# Altium footprint library WREL_AD10_Ben.PcbLib: 135 footprints (part 3 of 9)
Each footprint in its own frame and in the unit in brackets; x right, y up, seen from the top. Pads: shape width x height; smd on the part's side, far side on the other; paste and mask are expansions set on the pad; w line width, h text height; cw(c..) or ccw(c..) is an arc to the next point about the centre after c.
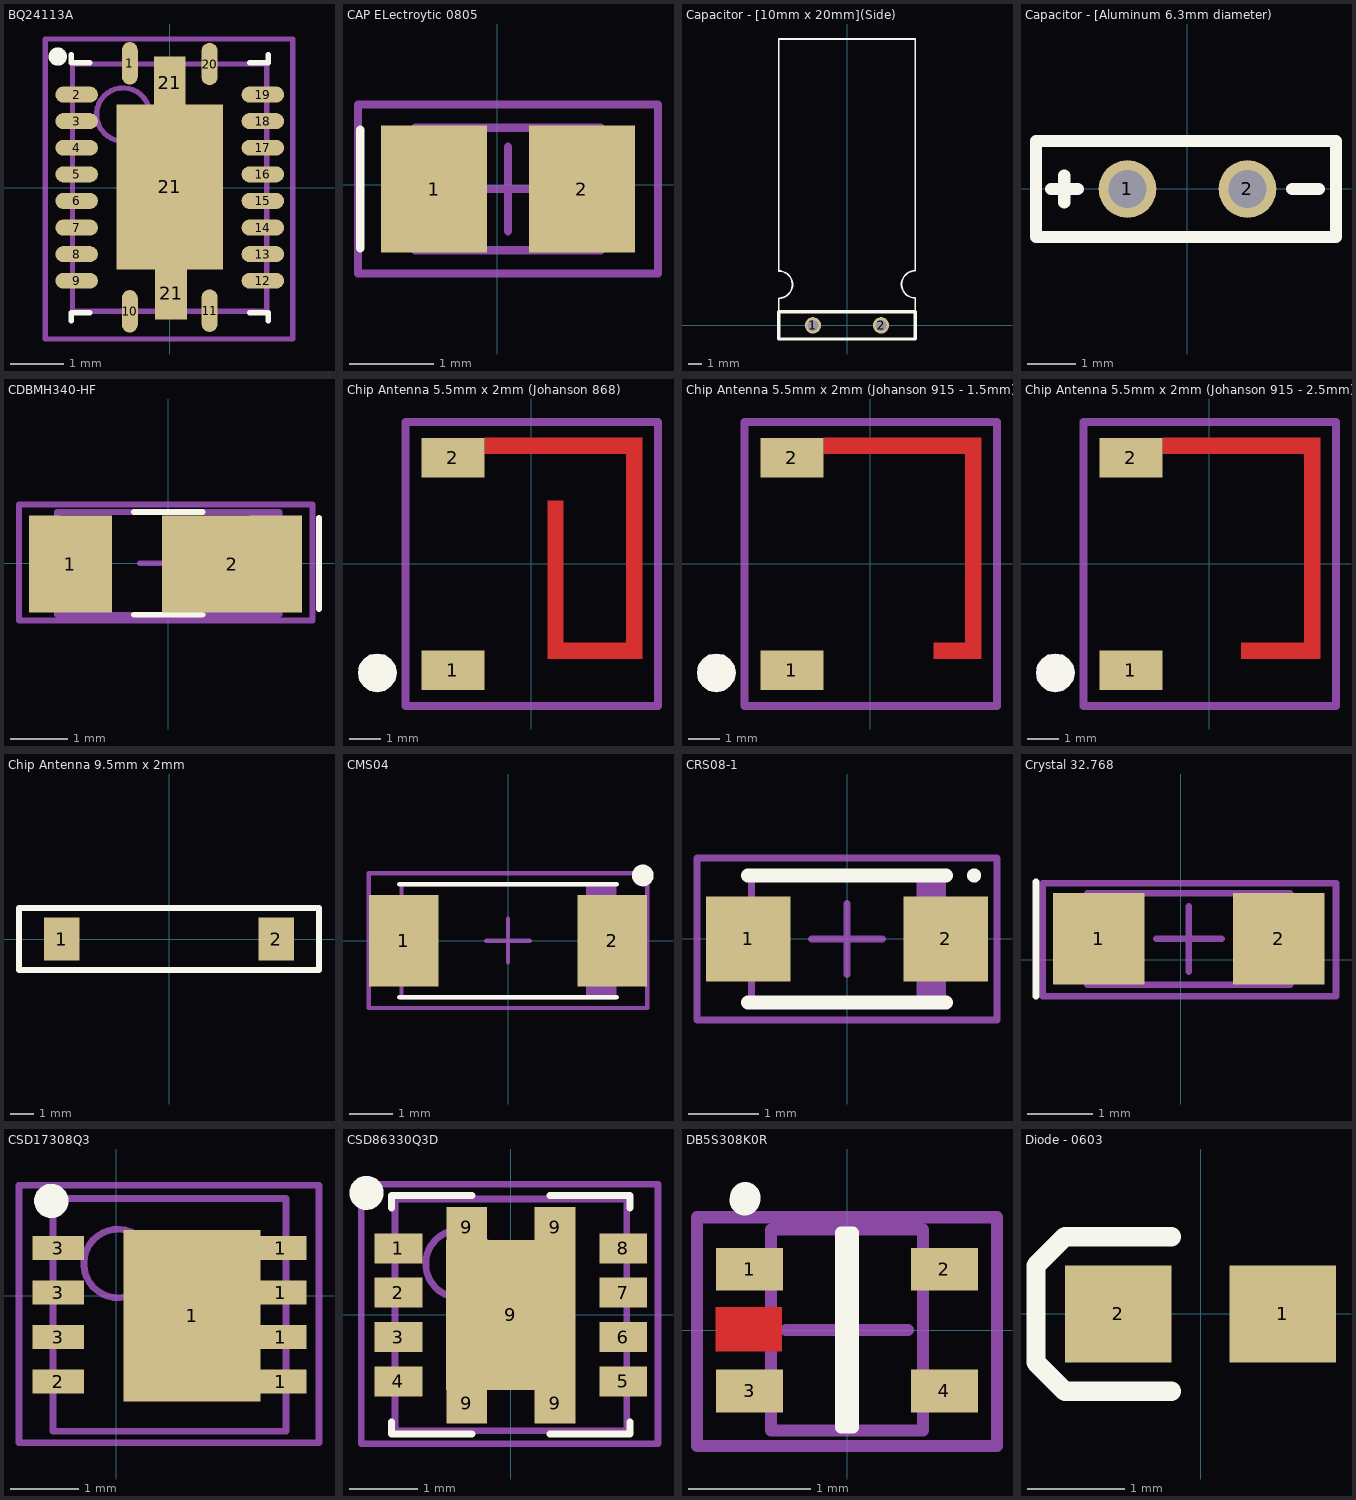
[diagram p2: the footprints below, top view; thin cyan lines are the x and y axes]

## BQ24113A [mm] "BATTERY CHARGER IC"
height 1
pads (23):
  oval 0.3x0.8 smd: 1(-0.749,2.337) 10(-0.75,-2.324) 11(0.749,-2.311) 20(0.749,2.324)
  oval 0.8x0.3 smd: 2(-1.75,1.75) 3(-1.75,1.25) 4(-1.75,0.75) 5(-1.75,0.25) 6(-1.75,-0.25) 7(-1.75,-0.75) 8(-1.75,-1.25) 9(-1.75,-1.75) 12(1.75,-1.75) 13(1.75,-1.25) 14(1.75,-0.75) 15(1.75,-0.25) 16(1.75,0.25) 17(1.75,0.75) 18(1.75,1.25) 19(1.75,1.75)
  rect 2x3.1 smd: 21(0.002,0.013)
  rect 0.6x1 smd: 21(0.002,1.968) 21(0.025,-1.981)
Top Overlay:
  circle w0.25: c-2.104,2.464 r0.047
  lines w0.1: -1.85,-2.5 -1.85,-2.35 -1.5,-2.35 ; -1.85,2.5 -1.85,2.35 -1.5,2.35 ; 1.5,-2.35 1.85,-2.35 1.85,-2.5 ; 1.5,2.35 1.85,2.35 1.85,2.5
Mechanical 13:
  circle w0.1: c-0.875,1.375 r0.5
  lines w0.1: -1.825,-2.325 -1.825,2.325 1.825,2.325 1.825,-2.325 -1.825,-2.325
Mechanical 15:
  lines w0.1: -0.5,0 0.5,0 ; 0,-0.5 0,0.5 ; -2.337,-2.845 -2.337,2.794 2.311,2.794 2.311,-2.845 -2.337,-2.845
3D body: height 1, standoff 0, extent -1.825,-2.325 1.825,2.325

## CAP ELectroytic 0805 [mm]
pads (2):
  rect 1.25x1.5 smd: 1(-0.748,-0.051) 2(1.002,-0.051)
Top Overlay:
  lines w0.1: -1.623,-0.751 -1.623,0.649
Mechanical 13:
  lines w0.1: -0.973,-0.776 1.227,-0.776 1.227,0.674 -0.973,0.674 -0.973,-0.776
Mechanical 15:
  lines w0.1: -0.373,-0.051 0.627,-0.051 ; 0.127,-0.551 0.127,0.449 ; -1.648,-1.051 1.902,-1.051 1.902,0.949 -1.648,0.949 -1.648,-1.051
3D body: height 1.2, standoff 0, extent -0.973,-0.776 1.227,0.674

## Capacitor - [10mm x 20mm](Side) [mm] "Electrolytic Capacitors, Radial Can on side [10mm x 20mm]"
height 10
pads (2):
  round 1.2 hole 0.8: 1(-2.5,0) 2(2.5,0)
Top Overlay:
  lines w0.127: -5,1 -5,1.992 ccw(c-5,2.992) -5,3.992 -5,21 5,21 5,4.008 ccw(c5,3.008) 5,2.008 5,1
  lines w0.254: -5,-1 5,-1 5,1 -5,1 -5,-1
3D body: height 10, standoff 0, extent -5.004,0.906 4.996,20.906

## Capacitor - [Aluminum 6.3mm diameter) [mm] "Electrolytic Capacitors, Radial Can on side"
height 6.3
pads (2):
  round 1.2 hole 0.8: 1(-1.25,0) 2(1.25,0)
Top Overlay:
  lines w0.254: -3.156,-1.002 -3.156,1 ; -3.15,-1 3.094,-1 ; -3.15,1 3.093,1 3.094,-0.996 ; -2.845,0 -2.286,0 ; -2.565,-0.279 -2.565,0.279 ; 2.184,0 2.743,0
3D body: height 6.27, standoff 0.03, extent -3.12,-1.031 3.12,11.669

## CDBMH340-HF [mm] "CDBMH340-HF"
height 1.7
pads (2):
  rect 1.45x1.7 smd: 1(-1.714,-0.013)
  rect 2.45x1.7 smd: 2(1.118,-0.013)
Top Overlay:
  lines w0.1: -0.6,-0.9 0.6,-0.9 ; -0.6,0.9 0.6,0.9 ; 2.642,-0.8 2.642,0.8
Mechanical 13:
  rectangle: 1.425,-0.9 1.95,0.9
  lines w0.1: -1.95,-0.9 -1.95,0.9 1.95,0.9 1.95,-0.9 -1.95,-0.9
Mechanical 15:
  lines w0.1: -0.5,0 0.5,0 ; 0,-0.5 0,0.5 ; -2.616,-1.003 -2.616,1.029 2.527,1.029 2.527,-1.003 -2.616,-1.003
3D body: height 1.7, standoff 0, extent -1.95,-0.9 1.95,0.9

## Chip Antenna 5.5mm x 2mm (Johanson 868) [mm] "For the CC430 (http://www.johansontechnology.com/images/stories/tech-notes/ti/783-868-915-953-2450MHZ_ISM_Solution_Johanson.pdf)"
pads (2):
  rect 2x1.25 smd paste+0 mask+0.1: 1(-2.489,-3.378) 2(-2.489,3.372)
Top Layer:
  region: 0.511,-2.503 0.511,1.997 1.011,1.997 1.011,-2.503
  region: 0.511,-3.003 0.511,-2.503 3.511,-2.503 3.511,-3.003
  region: -1.489,3.497 -1.489,3.997 3.511,3.997 3.511,3.497
  region: 3.011,-2.503 3.011,3.497 3.511,3.497 3.511,-2.503
Top Overlay:
  region: -4.277,-3.453 -4.324,-3.687 -4.457,-3.886 -4.655,-4.018 -4.889,-4.065 -5.123,-4.018 -5.322,-3.886 -5.454,-3.687 -5.501,-3.453 -5.454,-3.219 -5.322,-3.021 -5.123,-2.888 -4.889,-2.841 -4.655,-2.888 -4.457,-3.021 -4.324,-3.219
Mechanical 1:
  region: -4.277,-3.453 -4.324,-3.687 -4.457,-3.886 -4.655,-4.018 -4.889,-4.065 -5.123,-4.018 -5.322,-3.886 -5.454,-3.687 -5.501,-3.453 -5.454,-3.219 -5.322,-3.021 -5.123,-2.888 -4.889,-2.841 -4.655,-2.888 -4.457,-3.021 -4.324,-3.219
  lines w0.254: -3.989,-4.503 4.011,-4.503 4.011,4.497 -3.989,4.497 -3.989,-4.503
Mechanical 2:
  lines w0.025: -3.989,-4.503 4.011,-4.503 4.011,4.497 -3.989,4.497 -3.989,-4.503

## Chip Antenna 5.5mm x 2mm (Johanson 915 - 1.5mm) [mm] "For the CC430 (http://www.johansontechnology.com/images/stories/tech-notes/ti/783-868-915-953-2450MHZ_ISM_Solution_Johanson.pdf)"
pads (2):
  rect 2x1.25 smd paste+0 mask+0.1: 1(-2.489,-3.378) 2(-2.489,3.372)
Top Layer:
  region: 3.011,-2.503 3.011,3.497 3.511,3.497 3.511,-2.503
  region: -1.489,3.497 -1.489,3.997 3.511,3.997 3.511,3.497
  region: 2.011,-3.003 2.011,-2.503 3.511,-2.503 3.511,-3.003
Top Overlay:
  region: -4.277,-3.453 -4.324,-3.687 -4.457,-3.886 -4.655,-4.018 -4.889,-4.065 -5.123,-4.018 -5.322,-3.886 -5.454,-3.687 -5.501,-3.453 -5.454,-3.219 -5.322,-3.021 -5.123,-2.888 -4.889,-2.841 -4.655,-2.888 -4.457,-3.021 -4.324,-3.219
Mechanical 1:
  region: -4.277,-3.453 -4.324,-3.687 -4.457,-3.886 -4.655,-4.018 -4.889,-4.065 -5.123,-4.018 -5.322,-3.886 -5.454,-3.687 -5.501,-3.453 -5.454,-3.219 -5.322,-3.021 -5.123,-2.888 -4.889,-2.841 -4.655,-2.888 -4.457,-3.021 -4.324,-3.219
  lines w0.254: -3.989,-4.503 -3.989,4.497 4.011,4.497 4.011,-4.503 -3.989,-4.503
Mechanical 2:
  lines w0.025: -3.989,-4.503 -3.989,4.497 4.011,4.497 4.011,-4.503 -3.989,-4.503

## Chip Antenna 5.5mm x 2mm (Johanson 915 - 2.5mm) [mm] "For the CC430 (http://www.johansontechnology.com/images/stories/tech-notes/ti/783-868-915-953-2450MHZ_ISM_Solution_Johanson.pdf)"
pads (2):
  rect 2x1.25 smd paste+0 mask+0.1: 1(-2.489,-3.378) 2(-2.489,3.372)
Top Layer:
  region: 3.011,-2.503 3.011,3.497 3.511,3.497 3.511,-2.503
  region: -1.489,3.497 -1.489,3.997 3.511,3.997 3.511,3.497
  region: 1.011,-3.003 1.011,-2.503 3.511,-2.503 3.511,-3.003
Top Overlay:
  region: -4.277,-3.453 -4.324,-3.687 -4.457,-3.886 -4.655,-4.018 -4.889,-4.065 -5.123,-4.018 -5.322,-3.886 -5.454,-3.687 -5.501,-3.453 -5.454,-3.219 -5.322,-3.021 -5.123,-2.888 -4.889,-2.841 -4.655,-2.888 -4.457,-3.021 -4.324,-3.219
Mechanical 1:
  region: -4.277,-3.453 -4.324,-3.687 -4.457,-3.886 -4.655,-4.018 -4.889,-4.065 -5.123,-4.018 -5.322,-3.886 -5.454,-3.687 -5.501,-3.453 -5.454,-3.219 -5.322,-3.021 -5.123,-2.888 -4.889,-2.841 -4.655,-2.888 -4.457,-3.021 -4.324,-3.219
  lines w0.254: -3.989,-4.503 -3.989,4.497 4.011,4.497 4.011,-4.503 -3.989,-4.503
Mechanical 2:
  lines w0.025: -3.989,-4.503 -3.989,4.497 4.011,4.497 4.011,-4.503 -3.989,-4.503

## Chip Antenna 9.5mm x 2mm [mm]
height 1.2
pads (2):
  rect 1.5x1.8 smd: 1(-4.5,0) 2(4.5,0)
Top Overlay:
  lines w0.254: -6.3,-1.3 -6.3,1.3 6.3,1.3 6.3,-1.3 -6.3,-1.3
3D body: height 1.2, standoff 0, extent -6.3,-1.3 6.3,1.3

## CMS04 [mm] "DIODE SCHOTTKY 30V 5A MFLAT"
height 1.08
pads (2):
  rect 1.6x2.1 smd: 1(-2.4,0) 2(2.4,0)
Top Overlay:
  circle w0.25: c3.1,1.5 r0.125
  lines w0.1: -2.5,-1.3 2.5,-1.3 ; -2.5,1.3 2.5,1.3
Mechanical 13:
  rectangle: 1.791,-1.3 2.45,1.3
  lines w0.1: -2.45,-1.3 2.45,-1.3 2.45,1.3 -2.45,1.3 -2.45,-1.3
Mechanical 15:
  lines w0.1: -0.5,0 0.5,0 ; 0,-0.5 0,0.5 ; -3.2,-1.55 3.2,-1.55 3.2,1.55 -3.2,1.55 -3.2,-1.55
3D body: height 1.08, standoff 0, extent -2.45,-1.3 2.45,1.3

## CRS08-1 [mm] "TOSHIBA Schottky Barrier Rectifier"
height 1.08
pads (2):
  rect 1.2x1.2 smd: 1(-1.4,0) 2(1.4,0)
Top Overlay:
  circle w0.1: c1.8,0.9 r0.05
  lines w0.2: -1.4,-0.9 1.4,-0.9 ; -1.4,0.9 1.4,0.9
Mechanical 13:
  rectangle: 0.987,-0.9 1.35,0.9
  lines w0.1: -1.35,-0.9 -1.35,0.9 1.35,0.9 1.35,-0.9 -1.35,-0.9
Mechanical 15:
  lines w0.1: -0.5,0 0.5,0 ; 0,-0.5 0,0.5 ; -2.125,-1.15 -2.125,1.15 2.125,1.15 2.125,-1.15 -2.125,-1.15
3D body: height 1.08, standoff 0, extent -1.35,-0.9 1.35,0.9

## Crystal 32.768 [mm] "CRYSTAL 32.768KHZ 12.5PF SMD"
pads (2):
  rect 1.4x1.4 smd: 1(-1.248,0.318) 2(1.502,0.318)
Top Overlay:
  lines w0.1: -2.21,-0.559 -2.21,1.191
Mechanical 13:
  rectangle: -1.423,-0.383 -1.006,1.017
  lines w0.1: -1.423,-0.383 -1.423,1.017 1.677,1.017 1.677,-0.383 -1.423,-0.383
Mechanical 15:
  lines w0.1: -0.373,0.318 0.627,0.318 ; 0.127,-0.183 0.127,0.817 ; -2.108,-0.559 -2.108,1.168 2.375,1.168 2.375,-0.559 -2.108,-0.559
3D body: height 0.9, standoff 0, extent -1.423,-0.383 1.677,1.017

## CSD17308Q3 [mm] "MOSFET N-CH 30V 47A 8SON"
pads (9):
  rect 2x2.5 smd: 1(1.105,-0.292)
  rect 0.75x0.35 smd: 1(2.4,-1.254) 1(2.4,-0.604) 1(2.4,0.046) 1(2.4,0.696) 2(-0.85,-1.254) 3(-0.85,-0.604) 3(-0.85,0.046) 3(-0.85,0.696)
Top Overlay:
  circle w0.25: c-0.951,1.384 r0.125
Mechanical 13:
  circle w0.1: c0.025,0.471 r0.5
  lines w0.1: -0.925,-1.979 2.475,-1.979 2.475,1.421 -0.925,1.421 -0.925,-1.979
Mechanical 15:
  lines w0.1: 0.275,-0.279 1.275,-0.279 ; 0.775,-0.779 0.775,0.221 ; -1.422,-2.146 2.959,-2.146 2.959,1.613 -1.422,1.613 -1.422,-2.146
3D body: height 1.1, standoff 0.05, extent -0.925,-1.979 2.475,1.421

## CSD86330Q3D [mm] "MOSFET 2N-CH 25V 20A 8SON"
height 1.5
pads (13):
  rect 0.7x0.44 smd: 1(-1.65,0.975) 2(-1.65,0.325) 3(-1.65,-0.325) 4(-1.65,-0.975) 5(1.65,-0.975) 6(1.65,-0.325) 7(1.65,0.325) 8(1.65,0.975)
  rect 0.6x0.6 smd: 9(-0.648,-1.295) 9(-0.648,1.283) 9(0.648,-1.295) 9(0.648,1.283)
  rect 1.9x2.2 smd: 9(0,0)
Top Overlay:
  lines w0.1: -1.75,-1.57 -1.75,-1.75 -0.57,-1.75 ; -1.75,1.57 -1.75,1.75 -0.57,1.75 ; 0.57,-1.75 1.75,-1.75 1.75,-1.57 ; 0.57,1.75 1.75,1.75 1.75,1.57
  lines w0.25: -1.996,1.816 ccw(c-2.119,1.791) -1.994,1.791
Mechanical 13:
  circle w0.1: c-0.75,0.75 r0.5
  lines w0.1: -1.7,-1.7 1.7,-1.7 1.7,1.7 -1.7,1.7 -1.7,-1.7
Mechanical 15:
  lines w0.1: -0.5,0 0.5,0 ; 0,-0.5 0,0.5 ; -2.197,-1.892 2.159,-1.892 2.159,1.918 -2.197,1.918 -2.197,-1.892
3D body: height 1.5, standoff 0.05, extent -1.7,-1.7 1.7,1.7

## DB5S308K0R [mm] "DIODE SCHOTTKY 30V 100MA SSMINI5"
height 0.6
pads (4):
  rect 0.55x0.35 smd: 1(-0.8,0.5) 2(0.8,0.5) 3(-0.8,-0.5) 4(0.8,-0.5)
Top Layer:
  rectangle: -1.079,-0.178 -0.533,0.191
Top Overlay:
  lines w0.1: -0.05,-0.8 -0.05,0.8 0.05,0.8 0.05,-0.8 -0.05,-0.8
  lines w0.25: -0.838,1.067 ccw(c-0.961,1.092) -0.836,1.092
Top Solder:
  rectangle: -1.168,-0.216 -0.419,0.216
Mechanical 13:
  lines w0.1: -0.625,-0.825 0.625,-0.825 0.625,0.825 -0.625,0.825 -0.625,-0.825
Mechanical 15:
  lines w0.1: -0.5,0 0.5,0 ; 0,-0.5 0,0.5 ; -1.232,-0.953 1.232,-0.953 1.232,0.927 -1.232,0.927 -1.232,-0.953
3D body: height 0.6, standoff 0, extent -0.625,-0.825 0.625,0.825

## Diode - 0603 [mm] "Diode: Body 1.6 x 0.8 mm (LxW typ)"
height 0.28
pads (2):
  rect 1.1x1 smd: 1(0.85,0) 2(-0.85,0)
Top Overlay:
  lines w0.2: -0.3,-0.8 -1.4,-0.8 -1.7,-0.5 -1.7,0.4 -1.7,0.5 -1.4,0.8 -0.3,0.8
3D body: height 0.28, standoff 0, extent -0.813,-0.406 0.787,0.406